# Altium footprint library BJT_ROHM_EMT52T2R_100mA_PNP.PcbLib: 1 footprints
Each footprint in its own frame and in the unit in brackets; x right, y up, seen from the top. Pads: shape width x height; smd on the part's side, far side on the other; paste and mask are expansions set on the pad; w line width, h text height; cw(c..) or ccw(c..) is an arc to the next point about the centre after c.
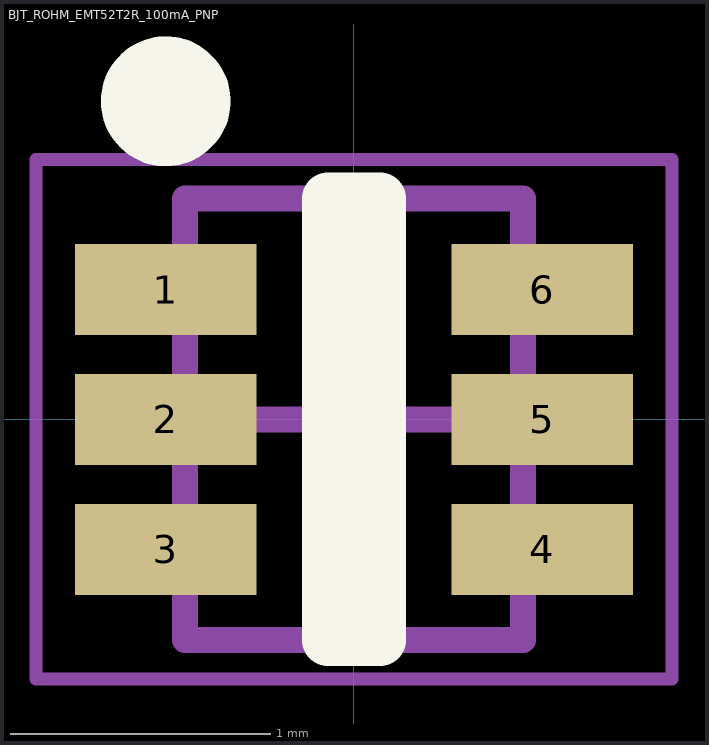
[diagram p0: the footprint, top view; thin cyan lines are the x and y axes]

## BJT_ROHM_EMT52T2R_100mA_PNP [mm] "Bipolar Transistors - BJT Bipolar Transistor SOT-563 SC-107C EMT6"
height 0.55
pads (6):
  rect 0.7x0.35 smd: 1(-0.725,0.5) 2(-0.725,0) 3(-0.725,-0.5) 4(0.725,-0.5) 5(0.725,0) 6(0.725,0.5)
Top Overlay:
  circle w0.25: c-0.725,1.225 r0.125
  lines w0.2: -0.1,-0.85 -0.1,0.85 0.1,0.85 0.1,-0.85 -0.1,-0.85
Mechanical 13:
  lines w0.1: -0.65,-0.85 0.65,-0.85 0.65,0.85 -0.65,0.85 -0.65,-0.85
Mechanical 15:
  lines w0.05: -1.225,-1 1.225,-1 1.225,1 -1.225,1 -1.225,-1
  lines w0.1: -0.5,0 0.5,0 ; 0,-0.5 0,0.5
3D body "SOTFL50P160X55-6N.step": height 0.55, standoff 0, extent -0.8,-0.848 0.8,0.848